# EAGLE library part MICRO-SD-DM3AT (library MyComponents)
DM3 Series microSDTM Card Connectors
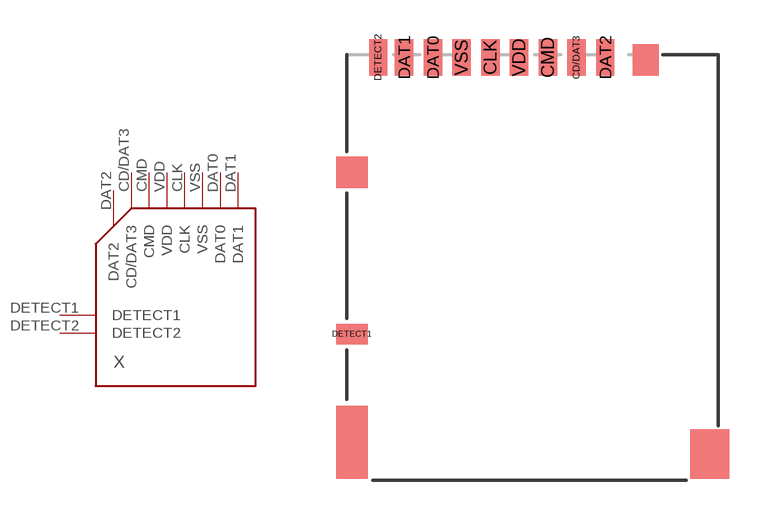
[diagram p4: symbol with the pads of DM3AT; footprint DM3AT]

Designator prefix X

## MICRO-SD-DM3AT  [DM3AT]
CD/DAT3  CD/DAT3
CLK  CLK
CMD  CMD
DAT0  DAT0
DAT1  DAT1
DAT2  DAT2
DETECT1  DETECT1
DETECT2  DETECT2
VDD  VDD  sup
VSS  VSS  pwr

## Footprint DM3AT (pad centres in mm)
DM3AT Push-Push (ejection mechanism), Top board mounting (Standard)
smd 0.7 x 1.4: CD/DAT3 -1.1,0.7; CLK -4.4,0.7; CMD -2.2,0.7; DAT0 -6.6,0.7; DAT1 -7.7,0.7; DAT2 0,0.7; DETECT2 -8.69,0.7; VDD -3.3,0.7; VSS -5.5,0.7
smd 1.2 x 0.8: DETECT1 -9.7,-9.9